# Altium schematic symbol library HDR_1X5_BB.SchLib: 1 symbol
Pins are listed as number, name and electrical type; pins without a type are passive.

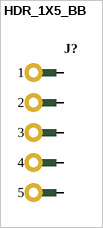
[diagram p0: symbol HDR_1X5_BB]

## HDR_1X5_BB
designator J?  (value not drawn)  (mechanical)
pins: 1, 2, 3, 4, 5
1 alternate drawing of the same symbol